# Altium integrated library Analog Devices Data Converters Analog-to-Digital Converters.IntLib: 2404 symbols (part 336 of 346)
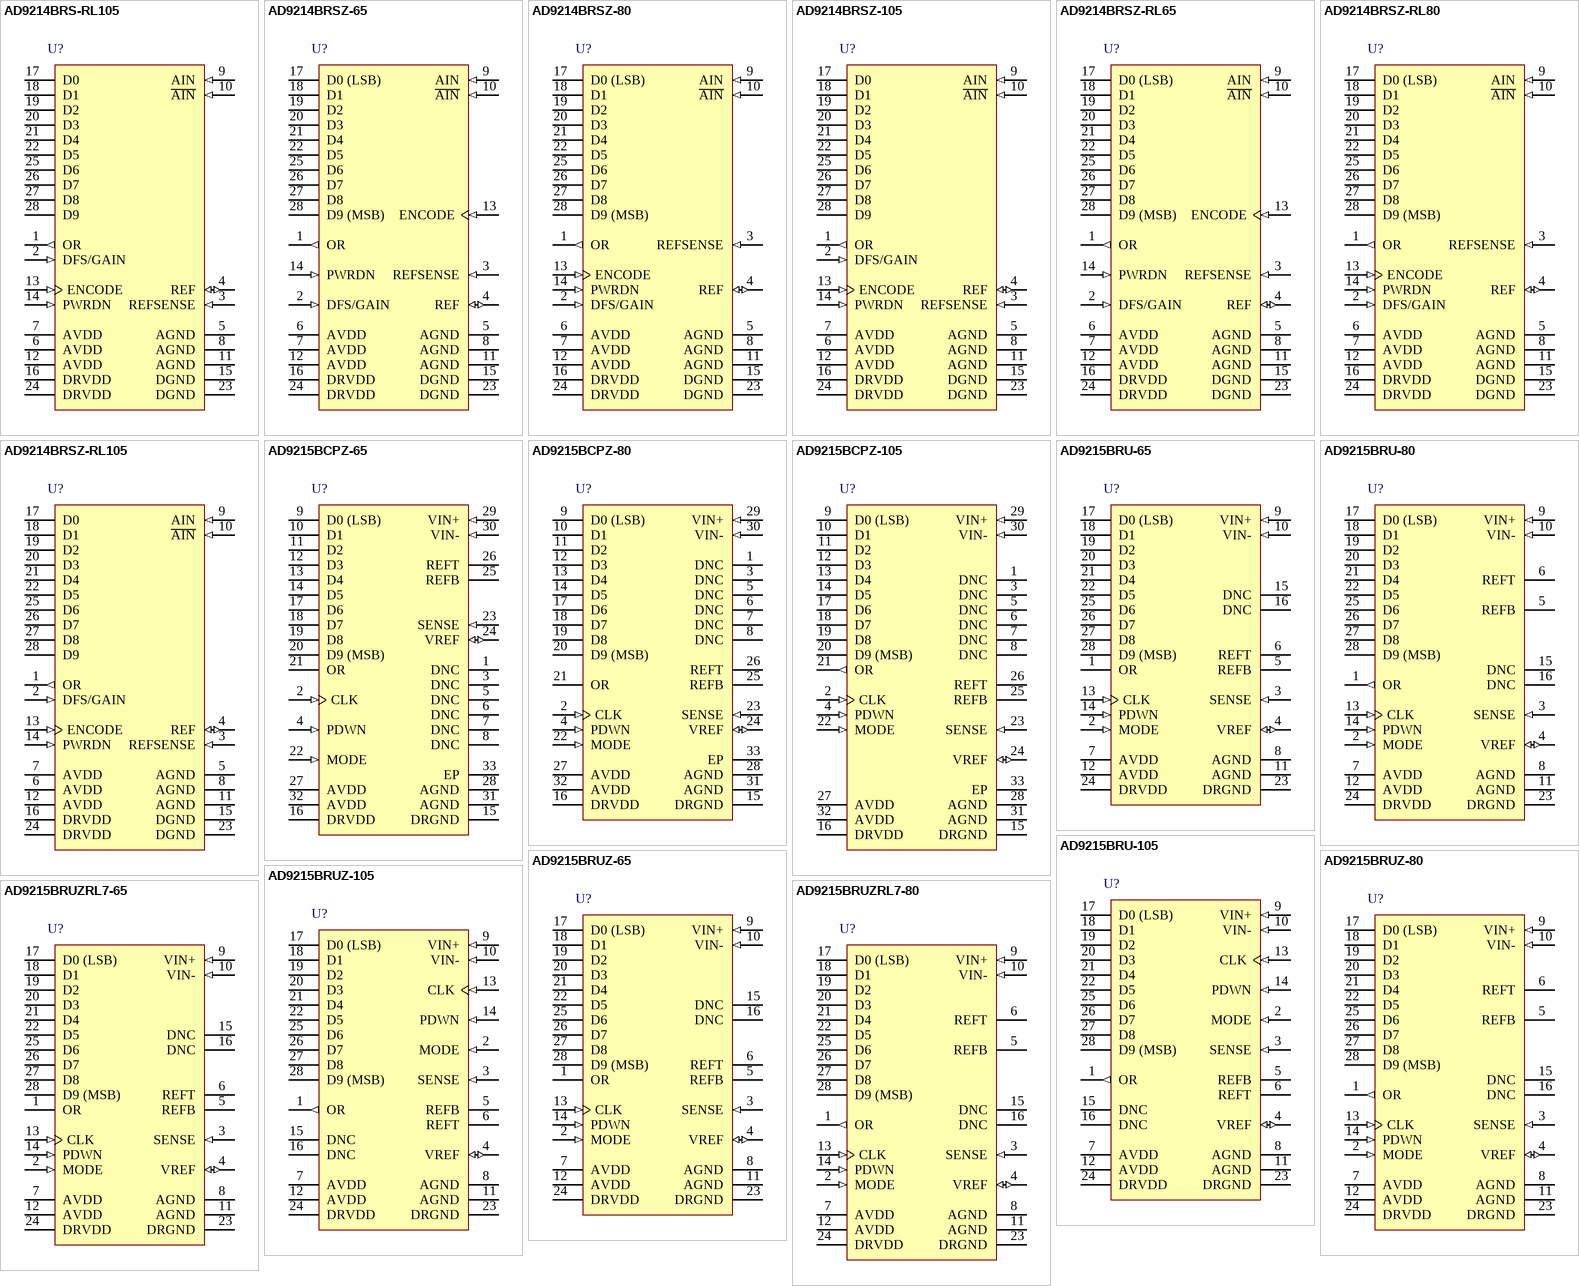
[diagram p434: symbols AD9214BRS-RL105 to AD9215BRUZRL7-80]

## AD9214BRSZ-RL80
designator U?
Single 10-Bit Analog-to-Digital Converter with Parallel Interface, 80MSPS, -40 to +85 degC, RS-28, Pb-Free, Reel; Generic Part Number: AD9214-80; Manufacturer: Analog Devices; PartNumber: AD9214BRSZ-RL80; Resolution (Bits): 10; Channels: 1; Throughput Rate (SPS): 80M; Interface: Par; DatasheetVersion: Rev.D; PackageVersion: 060106-A; PackageReference: RS-28; PackageDescription: 28-Lead Shrink Small Outline Package [SSOP]; Supplier 1: Digi-Key; Supplier Part Number 1: AD9214BRSZ-RL80-ND; Supplier 2: Mouser; Supplier Part Number 2: 584-AD9214BRSZ-R80; RoHS: Y; Packing: Reel; Mounting Technology: Surface Mount; Code_JEDEC: MO-150-AH; ComponentLink1Description: Manufacturer URL; ComponentLink1URL: http://www.analog.com/en/index.html; ComponentLink2Description: Datasheet; ComponentLink2URL: http://www.analog.com/static/imported-files/data_sheets/AD9214.pdf; ComponentLink3Description: Package Specification; ComponentLink3URL: http://www.analog.com/static/imported-files/packages/32122249223724RS_28.pdf; ComponentLink4Description: Product URL; ComponentLink4URL: http://www.analog.com/en/analog-to-digital-converters/ad-converters/ad9214/products/product.html
footprint RS-28_N (SOP, 28-Leads, Body 10.2x5.3mm, Pitch 0.65mm, IPC Medium Density)
footprint RS-28_L (SOP, 28-Leads, Body 10.2x5.3mm, Pitch 0.65mm, IPC High Density)
footprint RS-28_M (SOP, 28-Leads, Body 10.2x5.3mm, Pitch 0.65mm, IPC Low Density)
pins: 1 OR (out) "CMOS Output; Out-of-Range Indicator. Logic HIGH indicates the analog input voltage was outside the converter's range for the current output data.", 2 DFS/GAIN (in) "Data Format Select and Gain Mode Select. Connect externally to AVDD for two's complement data format and 1 V p-p analog input range. Connect externally to AGND for Offset Binary data format and 1 V p-p analog input range. (See Datasheet)", 3 REFSENSE (in) "Reference Mode Select Pin for the ADC. This pin is normally connected externally to AGND, which enables the internal 1.25 V reference, and configures REF (Pin 4) as an analog reference output pin. Connecting REFSENSE (See Datasheet)", 4 REF (io) "Reference input or output as configured by REFSENSE (Pin 3). When configured as an output (REFSENSE = AGND), the internal reference (nominally 1.25 V) is enabled and is available to the user on this pin. When configured as (See Datasheet)", 5 AGND (power) "Analog Ground", 6 AVDD (power) "Analog Power Supply, Nominally 3 V", 7 AVDD (power) "Analog Power Supply, Nominally 3 V", 8 AGND (power) "Analog Ground", 9 AIN (in) "Positive terminal of the differential analog input for the ADC.", 10 ~{AIN} (in) "Negative terminal of the differential analog input for the ADC. This pin can be left open if operating in single-ended mode, but it is preferable to match the impedance seen at the positive terminal (see Driving the Analog (See Datasheet)", 11 AGND (power) "Analog Ground", 12 AVDD (power) "Analog Power Supply, Nominally 3 V", 13 ENCODE (in) "Encode Clock for the ADC. The AD9214 samples the analog signal on the rising edge of ENCODE.", 14 PWRDN (in) "CMOS-compatible power-down mode select, Logic LOW for normal operation; Logic HIGH for power-down mode (digital outputs in high impedance state). PWRDN has an internal 10 k ohm pull-down resistor to ground.", 15 DGND (power) "Digital Output Ground", 16 DRVDD (power) "Digital Output Driver Power Supply. Nominally 2.5 V to 3.6 V.", 17 D0 (LSB) (hiz) "CMOS Digital Outputs of ADC", 18 D1 (hiz) "CMOS Digital Outputs of ADC", 19 D2 (hiz) "CMOS Digital Outputs of ADC", 20 D3 (hiz) "CMOS Digital Outputs of ADC", 21 D4 (hiz) "CMOS Digital Outputs of ADC", 22 D5 (hiz) "CMOS Digital Outputs of ADC", 23 DGND (power) "Digital Output Ground", 24 DRVDD (power) "Digital Output Driver Power Supply. Nominally 2.5 V to 3.6 V.", 25 D6 (hiz) "CMOS Digital Outputs of ADC", 26 D7 (hiz) "CMOS Digital Outputs of ADC", 27 D8 (hiz) "CMOS Digital Outputs of ADC", 28 D9 (MSB) (hiz) "CMOS Digital Outputs of ADC"

## AD9214BRSZ-RL105
designator U?
Single 10-Bit Analog-to-Digital Converter with Parallel Interface, 105MSPS, -40 to +85 degC, RS-28, Pb-Free, Reel; Generic Part Number: AD9214-105; Manufacturer: Analog Devices; PartNumber: AD9214BRSZ-RL105; Resolution (Bits): 10; Channels: 1; Throughput Rate (SPS): 105M; Interface: Par; DatasheetVersion: Rev.D; PackageVersion: 060106-A; PackageReference: RS-28; PackageDescription: 28-Lead Shrink Small Outline Package [SSOP]; Supplier 1: Digi-Key; Supplier Part Number 1: AD9214BRSZ-RL105-ND; Supplier 2: Newark; Supplier Part Number 2: 82H3051; Supplier 3: Mouser; Supplier Part Number 3: 584-AD9214BRSZ-R105; RoHS: Y; Packing: Reel; Mounting Technology: Surface Mount; Code_JEDEC: MO-150-AH; ComponentLink1Description: Manufacturer URL; ComponentLink1URL: http://www.analog.com/en/index.html; ComponentLink2Description: Datasheet; ComponentLink2URL: http://www.analog.com/static/imported-files/data_sheets/AD9214.pdf; ComponentLink3Description: Package Specification; ComponentLink3URL: http://www.analog.com/static/imported-files/packages/32122249223724RS_28.pdf; ComponentLink4Description: Product URL; ComponentLink4URL: http://www.analog.com/en/analog-to-digital-converters/ad-converters/ad9214/products/product.html
footprint RS-28_N (SOP, 28-Leads, Body 10.2x5.3mm, Pitch 0.65mm, IPC Medium Density)
footprint RS-28_L (SOP, 28-Leads, Body 10.2x5.3mm, Pitch 0.65mm, IPC High Density)
footprint RS-28_M (SOP, 28-Leads, Body 10.2x5.3mm, Pitch 0.65mm, IPC Low Density)
pins: 1 OR (out) "CMOS Output; Out-of-Range Indicator. Logic HIGH indicates the analog input voltage was outside the converter’s range for the current output data.", 2 DFS/GAIN (in) "Data Format Select and Gain Mode Select. Connect externally to AVDD for two’s complement data format and 1 V p-p analog input range. Connect externally to AGND for Offset Binary data format and 1 V p-p analog input range. (See Datasheet)", 3 REFSENSE (in) "Reference Mode Select Pin for the ADC. This pin is normally connected externally to AGND, which enables the internal 1.25 V reference, and configures REF (Pin 4) as an analog reference output pin. Connecting REFSENSE (See Datasheet)", 4 REF (io) "Reference input or output as configured by REFSENSE (Pin 3). When configured as an output (REFSENSE = AGND), the internal reference (nominally 1.25 V) is enabled and is available to the user on this pin. When configured as (See Datasheet)", 5 AGND (power) "Analog Ground", 6 AVDD (power) "Analog Power Supply, Nominally 3 V", 7 AVDD (power) "Analog Power Supply, Nominally 3 V", 8 AGND (power) "Analog Ground", 9 AIN (in) "Positive terminal of the differential analog input for the ADC.", 10 ~{AIN} (in) "Negative terminal of the differential analog input for the ADC. This pin can be left open if operating in single-ended mode, but it is preferable to match the impedance seen at the positive terminal (see Driving the Analog (See Datasheet)", 11 AGND (power) "Analog Ground", 12 AVDD (power) "Analog Power Supply, Nominally 3 V", 13 ENCODE (in) "Encode Clock for the ADC. The AD9214 samples the analog signal on the rising edge of ENCODE.", 14 PWRDN (in) "CMOS-compatible power-down mode select, Logic LOW for normal operation; Logic HIGH for power-down mode (digital outputs in high impedance state). PWRDN has an internal 10 kO pull-down resistor to ground.", 15 DGND (power) "Digital Output Ground", 16 DRVDD (power) "Digital Output Driver Power Supply. Nominally 2.5 V to 3.6 V.", 17 D0 (hiz) "CMOS Digital Outputs of ADC", 18 D1 (hiz) "CMOS Digital Outputs of ADC", 19 D2 (hiz) "CMOS Digital Outputs of ADC", 20 D3 (hiz) "CMOS Digital Outputs of ADC", 21 D4 (hiz) "CMOS Digital Outputs of ADC", 22 D5 (hiz) "CMOS Digital Outputs of ADC", 23 DGND (power) "Digital Output Ground", 24 DRVDD (power) "Digital Output Driver Power Supply. Nominally 2.5 V to 3.6 V.", 25 D6 (hiz) "CMOS Digital Outputs of ADC", 26 D7 (hiz) "CMOS Digital Outputs of ADC", 27 D8 (hiz) "CMOS Digital Outputs of ADC", 28 D9 (hiz) "CMOS Digital Outputs of ADC"

## AD9215BCPZ-65
designator U?
Single 10-Bit Analog-to-Digital Converter with Parallel Interface, 65MSPS, -40 to +85 degC, CP-32-2, Pb-Free, Tray; Generic Part Number: AD9215-65; Manufacturer: Analog Devices; PartNumber: AD9215BCPZ-65; Resolution (Bits): 10; Channels: 1; Throughput Rate (SPS): 65M; Interface: Par; DatasheetVersion: Rev.A; PackageVersion: Jan-2005; PackageReference: CP-32-2; PackageDescription: 32-Lead Lead Frame Chip Scale Package [LFCSP_VQ] 5 x 5 mm Body, Very Thin Quad; Supplier 1: Digi-Key; Supplier Part Number 1: AD9215BCPZ-65-ND; Supplier 2: Newark; Supplier Part Number 2: 88H0319; Supplier 3: Mouser; Supplier Part Number 3: 584-AD9215BCPZ-65; RoHS: Y; Packing: Tray; Mounting Technology: Surface Mount; Code_JEDEC: MO-220-VHHD-2; ComponentLink1Description: Manufacturer URL; ComponentLink1URL: http://www.analog.com/en/index.html; ComponentLink2Description: Datasheet; ComponentLink2URL: http://www.analog.com/static/imported-files/data_sheets/AD9215.pdf; ComponentLink3Description: Package Specification; ComponentLink3URL: http://www.analog.com/static/imported-files/packages/414143737956480539664569CP_32_2.pdf; ComponentLink4Description: Product URL; ComponentLink4URL: http://www.analog.com/en/analog-to-digital-converters/ad-converters/ad9215/products/product.html
footprint CP-32-2_N (QFN, 32-Leads, Body 5x5mm, Pitch 0.5mm, Thermal Pad 3.1x3.1mm, IPC Medium Density)
footprint CP-32-2_L (QFN, 32-Leads, Body 5x5mm, Pitch 0.5mm, Thermal Pad 3.1x3.1mm, IPC High Density)
footprint CP-32-2_M (QFN, 32-Leads, Body 5x5mm, Pitch 0.5mm, Thermal Pad 3.1x3.1mm, IPC Low Density)
pins: 1 DNC "Do not connect, recommend floating this pin.", 2 CLK (in) "Clock Input Pin.", 3 DNC "Do not connect, recommend floating this pin.", 4 PDWN (in) "Power-Down Function Selection (Active High).", 5 DNC "Do not connect, recommend floating this pin.", 6 DNC "Do not connect, recommend floating this pin.", 7 DNC "Do not connect, recommend floating this pin.", 8 DNC "Do not connect, recommend floating this pin.", 9 D0 (LSB) (hiz) "Data Output Bits.", 10 D1 (hiz) "Data Output Bits.", 11 D2 (hiz) "Data Output Bits.", 12 D3 (hiz) "Data Output Bits.", 13 D4 (hiz) "Data Output Bits.", 14 D5 (hiz) "Data Output Bits.", 15 DRGND (power) "Digital Output Ground.", 16 DRVDD (power) "Digital Output Driver Supply. Must be decoupled to DRGND with a minimum 0.1 uF capacitor. Recommended decoupling is 0.1 uF in parallel with 10 uF.", 17 D6 (hiz) "Data Output Bits.", 18 D7 (hiz) "Data Output Bits.", 19 D8 (hiz) "Data Output Bits.", 20 D9 (MSB) (hiz) "Data Output Bits.", 21 OR (hiz) "Out-of-Range Indicator.", 22 MODE (in) "Data Format and Clock Duty Cycle Stabilizer (DCS) Mode Selection.", 23 SENSE (in) "Reference Mode Selection.", 24 VREF (io) "Voltage Reference Input/Output.", 25 REFB "Differential Reference (Negative).", 26 REFT "Differential Reference (Positive).", 27 AVDD (power) "Analog Power Supply.", 28 AGND (power) "Analog Ground.", 29 VIN+ (in) "Analog Input Pin (+).", 30 VIN- (in) "Analog Input Pin (-).", 31 AGND (power) "Analog Ground.", 32 AVDD (power) "Analog Power Supply.", 33 EP (power) "Exposed pad."

## AD9215BCPZ-80
designator U?
Single 10-Bit Analog-to-Digital Converter with Parallel Interface, 80MSPS, -40 to +85 degC, CP-32-2, Pb-Free, Tray; Generic Part Number: AD9215-80; Manufacturer: Analog Devices; PartNumber: AD9215BCPZ-80; Resolution (Bits): 10; Channels: 1; Throughput Rate (SPS): 80M; Interface: Par; DatasheetVersion: Rev.A; PackageVersion: Jan-2005; PackageReference: CP-32-2; PackageDescription: 32-Lead Lead Frame Chip Scale Package [LFCSP_VQ] 5 x 5 mm Body, Very Thin Quad; Supplier 1: Digi-Key; Supplier Part Number 1: AD9215BCPZ-80-ND; Supplier 2: Newark; Supplier Part Number 2: 88H0320; Supplier 3: Mouser; Supplier Part Number 3: 584-AD9215BCPZ-80; RoHS: Y; Packing: Tray; Mounting Technology: Surface Mount; Code_JEDEC: MO-220-VHHD-2; ComponentLink1Description: Manufacturer URL; ComponentLink1URL: http://www.analog.com/en/index.html; ComponentLink2Description: Datasheet; ComponentLink2URL: http://www.analog.com/static/imported-files/data_sheets/AD9215.pdf; ComponentLink3Description: Package Specification; ComponentLink3URL: http://www.analog.com/static/imported-files/packages/414143737956480539664569CP_32_2.pdf; ComponentLink4Description: Product URL; ComponentLink4URL: http://www.analog.com/en/analog-to-digital-converters/ad-converters/ad9215/products/product.html
footprint CP-32-2_N (QFN, 32-Leads, Body 5x5mm, Pitch 0.5mm, Thermal Pad 3.1x3.1mm, IPC Medium Density)
footprint CP-32-2_L (QFN, 32-Leads, Body 5x5mm, Pitch 0.5mm, Thermal Pad 3.1x3.1mm, IPC High Density)
footprint CP-32-2_M (QFN, 32-Leads, Body 5x5mm, Pitch 0.5mm, Thermal Pad 3.1x3.1mm, IPC Low Density)
pins: 1 DNC "Do not connect, recommend floating this pin.", 2 CLK (in) "Clock Input Pin.", 3 DNC "Do not connect, recommend floating this pin.", 4 PDWN (in) "Power-Down Function Selection (Active High).", 5 DNC "Do not connect, recommend floating this pin.", 6 DNC "Do not connect, recommend floating this pin.", 7 DNC "Do not connect, recommend floating this pin.", 8 DNC "Do not connect, recommend floating this pin.", 9 D0 (LSB) (hiz) "Data Output Bits.", 10 D1 (hiz) "Data Output Bits.", 11 D2 (hiz) "Data Output Bits.", 12 D3 (hiz) "Data Output Bits.", 13 D4 (hiz) "Data Output Bits.", 14 D5 (hiz) "Data Output Bits.", 15 DRGND (power) "Digital Output Ground.", 16 DRVDD (power) "Digital Output Driver Supply. Must be decoupled to DRGND with a minimum 0.1 uF capacitor. Recommended decoupling is 0.1 uF in parallel with 10 uF.", 17 D6 (hiz) "Data Output Bits.", 18 D7 (hiz) "Data Output Bits.", 19 D8 (hiz) "Data Output Bits.", 20 D9 (MSB) (hiz) "Data Output Bits.", 21 OR (hiz) "Out-of-Range Indicator.", 22 MODE (in) "Data Format and Clock Duty Cycle Stabilizer (DCS) Mode Selection.", 23 SENSE (in) "Reference Mode Selection.", 24 VREF (io) "Voltage Reference Input/Output.", 25 REFB "Differential Reference (Negative).", 26 REFT "Differential Reference (Positive).", 27 AVDD (power) "Analog Power Supply.", 28 AGND (power) "Analog Ground.", 29 VIN+ (in) "Analog Input Pin (+).", 30 VIN- (in) "Analog Input Pin (-).", 31 AGND (power) "Analog Ground.", 32 AVDD (power) "Analog Power Supply.", 33 EP (power) "Exposed pad."